# Altium footprint library NewLibrary.PcbLib: 125 footprints (part 8 of 8)
Each footprint in its own frame and in the unit in brackets; x right, y up, seen from the top. Pads: shape width x height; smd on the part's side, far side on the other; paste and mask are expansions set on the pad; w line width, h text height; cw(c..) or ccw(c..) is an arc to the next point about the centre after c.
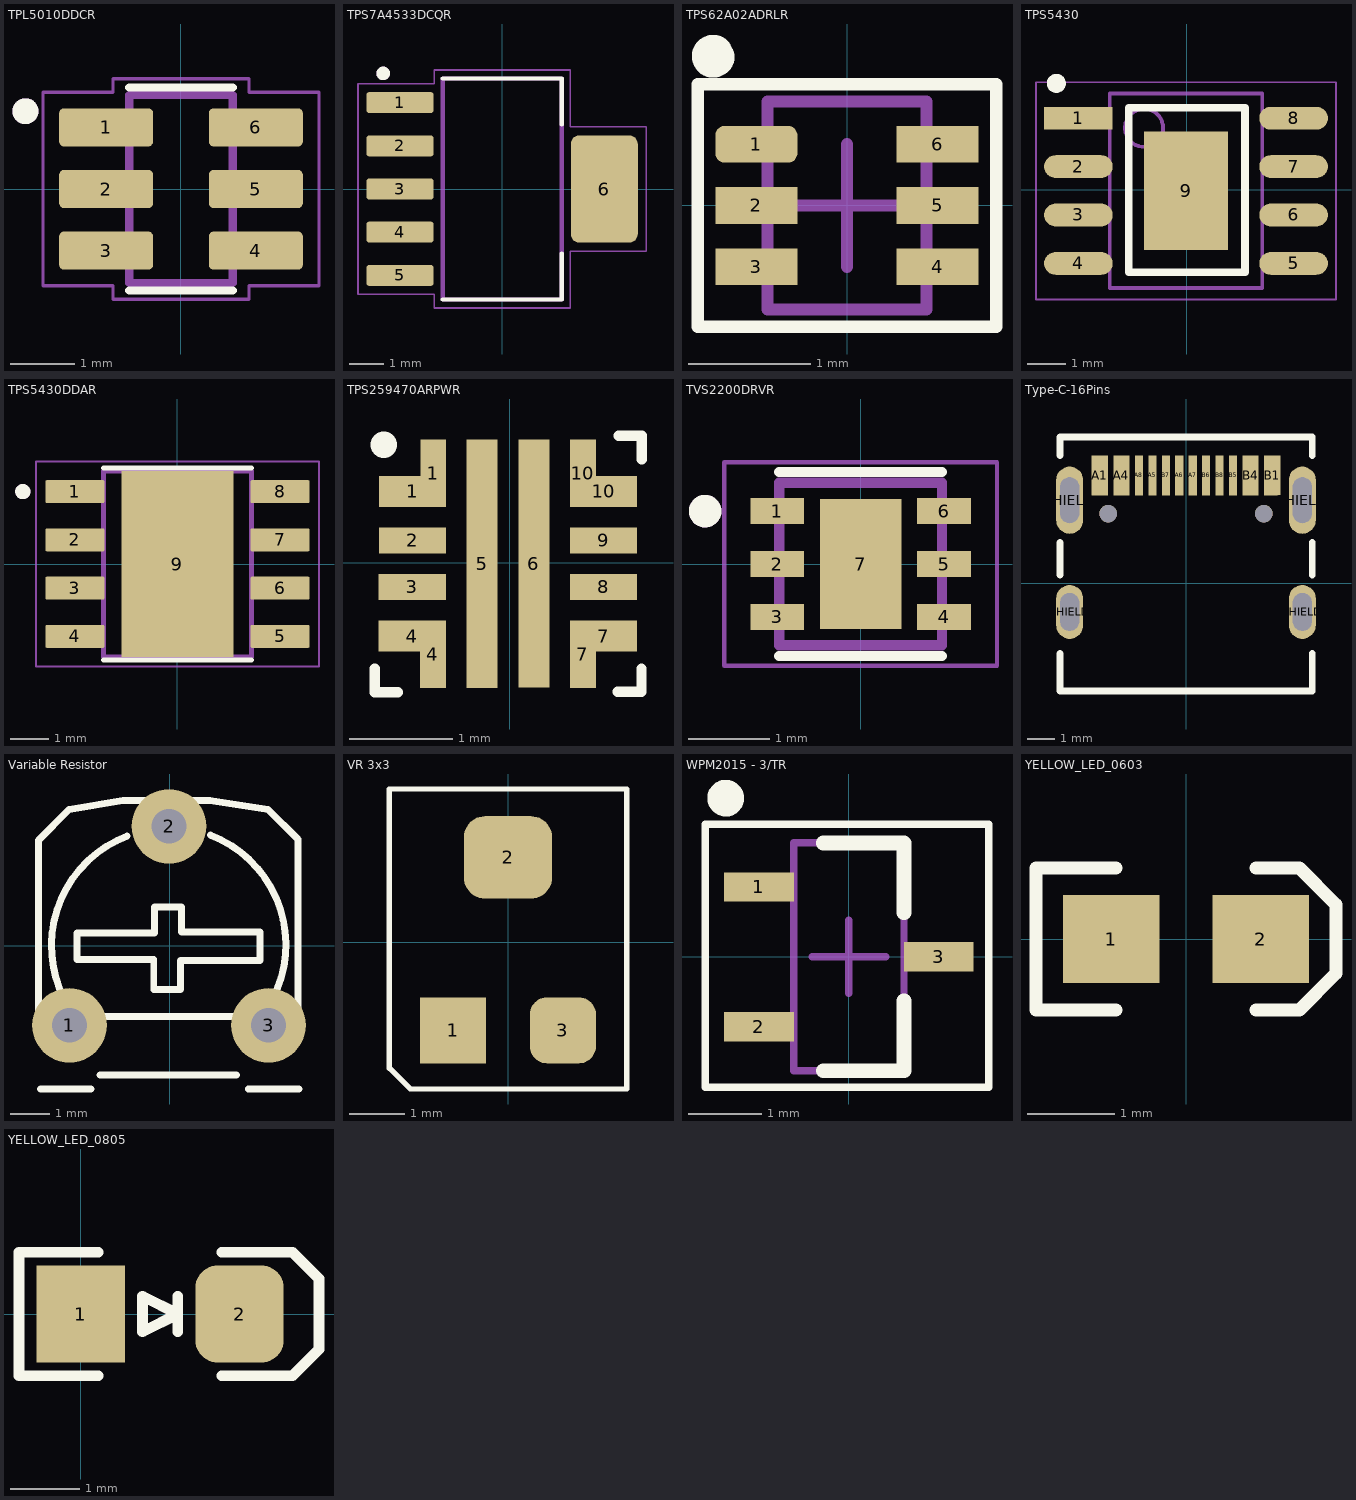
[diagram p7: the footprints below, top view; thin cyan lines are the x and y axes]

## TPL5010DDCR [mm] "IC OSC PROG TIMER TSOT23-6"
pads (6):
  rrect25% 1.45x0.59 smd: 1(-1.155,0.95) 2(-1.155,0) 3(-1.155,-0.95) 4(1.155,-0.95) 5(1.155,0) 6(1.155,0.95)
Top Overlay:
  circle w0.2: c-2.4,1.2 r0.1
  lines w0.127: -0.8,-1.565 0.8,-1.565 ; -0.8,1.565 0.8,1.565
Mechanical 13:
  circle w0.2: c-2.4,1.2 r0.1
  lines w0.127: -0.8,-1.45 0.8,-1.45 0.8,1.45 -0.8,1.45 -0.8,-1.45
Mechanical 15:
  lines w0.05: -2.13,-1.495 -1.05,-1.495 -1.05,-1.7 1.05,-1.7 1.05,-1.495 2.13,-1.495 2.13,1.495 1.05,1.495 1.05,1.7 -1.05,1.7 -1.05,1.495 -2.13,1.495 -2.13,-1.495
3D body "step_temp.STEP": height 1.1, standoff 0, extent -1.4,-1.45 1.4,1.45

## TPS7A4533DCQR [mm] "IC REG LIN 3.3V 1.5A SOT-223-6"
pads (6):
  rrect25% 1.97x0.62 smd: 1(-3.005,2.54) 2(-3.005,1.27) 3(-3.005,0) 4(-3.005,-1.27) 5(-3.005,-2.54)
  rrect25% 1.97x3.16 smd: 6(3.005,0)
Top Overlay:
  circle w0.2: c-3.5,3.4 r0.1
  lines w0.127: -1.75,-3.25 1.75,-3.25 1.75,-1.9 ; -1.75,3.25 1.75,3.25 1.75,1.9
Mechanical 13:
  circle w0.2: c-3.5,3.4 r0.1
  lines w0.127: -1.75,-3.25 -1.75,3.25 1.75,3.25 1.75,-3.25 -1.75,-3.25
Mechanical 15:
  lines w0.05: -4.24,-3.1 -2,-3.1 -2,-3.5 2,-3.5 2,-1.83 4.24,-1.83 4.24,1.83 2,1.83 2,3.5 -2,3.5 -2,3.1 -4.24,3.1 -4.24,-3.1
3D body "TPS7A4533DCQR.STEP": height 1.8, standoff 0, extent -3.53,-3.25 3.53,3.25

## TPS62A02ADRLR [mm] "SOTFL, 6-Leads, Body 1.60x1.60mm, Pitch 0.50mm, IPC Medium Density"
height 0.6
pads (6):
  rrect50% 0.67x0.3 smd: 1(-0.74,0.5)
  rect 0.67x0.3 smd: 2(-0.74,0) 3(-0.74,-0.5) 4(0.74,-0.5) 5(0.74,0) 6(0.74,0.5)
Top Overlay:
  lines w0.1: -1.219,-0.991 1.219,-0.991 1.219,0.991 -1.219,0.991 -1.219,-0.991
  lines w0.25: -1.064,1.261 ccw(c-1.092,1.219) -1.042,1.219
Mechanical 13:
  lines w0.1: -0.65,-0.85 0.65,-0.85 0.65,0.85 -0.65,0.85 -0.65,-0.85
Mechanical 15:
  lines w0.05: -1.225,-1 1.225,-1 1.225,1 -1.225,1 -1.225,-1
  lines w0.1: -0.5,0 0.5,0 ; 0,-0.5 0,0.5
3D body "TPS62A02ADRLR.step": height 0.6, standoff 0, extent -0.8,-0.848 0.8,0.848

## TPS5430 [mm]
pads (9):
  rect 1.8x0.6 smd: 1(-2.85,1.88)
  oval 1.8x0.6 smd: 2(-2.85,0.61) 3(-2.85,-0.66) 4(-2.85,-1.93) 5(2.8,-1.93) 6(2.8,-0.66) 7(2.8,0.61) 8(2.8,1.88)
  rect 2.2x3.1 smd: 9(-0.025,-0.025)
Top Overlay:
  circle w0.25: c-3.429,2.794 r0.125
  lines w0.2: -1.524,-2.159 -1.524,2.159 1.524,2.159 1.524,-2.159 1.397,-2.159 -1.524,-2.159
Mechanical 13:
  circle w0.1: c-1.125,1.625 r0.5
  lines w0.1: -2.025,-2.575 -2.025,2.525 1.975,2.525 1.975,-2.575 -2.025,-2.575
Mechanical 15:
  lines w0.05: -3.962,-2.875 -3.962,2.825 3.912,2.825 3.912,-2.875 -3.962,-2.875
  lines w0.1: -0.525,-0.025 0.475,-0.025 ; -0.025,-0.525 -0.025,0.475
3D body "CircuitWorks-SO-8 (PIC12FXXX).step": height 1.6, standoff 0, extent -3.02,-2.475 2.97,2.425

## TPS5430DDAR [mm] "Buck Switching Regulator IC Positive Adjustable 1.221V 1 Output 3A 8-PowerSOIC (0.154\", 3.90mm Width)"
pads (9):
  rrect10% 1.55x0.6 smd mask+0: 1(-2.7,1.905) 2(-2.7,0.635) 3(-2.7,-0.635) 4(-2.7,-1.905) 5(2.7,-1.905) 6(2.7,-0.635) 7(2.7,0.635) 8(2.7,1.905)
  rect 2.95x4.9 smd paste-3 mask+0: 9(0,0)
Top Overlay:
  circle w0.2: c-4.07,1.905 r0.1
  lines w0.127: -1.95,-2.525 1.95,-2.525 ; -1.95,2.525 1.95,2.525
Top Paste:
  region: 1.3,-1.55 -1.3,-1.55 -1.3,1.55 1.3,1.55
Top Solder:
  drawing of 9 lines, arcs and shapes, not listed
Mechanical 13:
  circle w0.2: c-4.07,1.905 r0.1
  lines w0.127: -1.95,-2.45 -1.95,2.45 1.95,2.45 1.95,-2.45 -1.95,-2.45
Mechanical 15:
  lines w0.05: -3.725,-2.7 -3.725,2.7 3.725,2.7 3.725,-2.7 -3.725,-2.7
3D body "step_temp.STEP": height 1.7, standoff 0, extent -3,-2.45 3,2.45

## TPS259470ARPWR [mm] "IC ELECTRONIC FUSE 10VQFN"
pads (14):
  rect 0.65x0.3 smd: 1(-0.938,0.692) 4(-0.941,-0.708) 7(0.909,-0.708) 10(0.909,0.692)
  rect 0.25x0.65 smd: 1(-0.738,0.867) 4(-0.741,-0.883) 7(0.709,-0.883) 10(0.709,0.867)
  rect 0.65x0.25 smd: 2(-0.938,0.217) 3(-0.941,-0.233) 8(0.909,-0.233) 9(0.909,0.217)
  rect 0.3x2.4 smd: 5(-0.265,-0.008) 6(0.235,-0.007)
Top Overlay:
  lines w0.1: -1.304,-1.022 -1.304,-1.25 -1.079,-1.25 ; 1.047,-1.247 1.275,-1.247 1.275,-1.021 ; 1.052,1.229 1.278,1.229 1.278,1
  lines w0.254: -1.217,1.143 -1.213,1.143
3D body "TPS259470ARPWR.STEP": height 1, standoff 0, extent -1.012,-1.006 0.988,0.994

## TVS2200DRVR [mm] "UNIDIR PRECISION SURGE DIODE"
pads (7):
  rect 0.66x0.32 smd: 1(-1.025,0.65) 2(-1.025,0) 3(-1.025,-0.65) 4(1.025,-0.65) 5(1.025,0) 6(1.025,0.65)
  rect 1x1.6 smd paste-2: 7(0,0)
Top Overlay:
  circle w0.2: c-1.91,0.65 r0.1
  lines w0.127: -1,-1.13 1,-1.13 ; -1,1.13 1,1.13
Top Paste:
  region: 0.316,-0.506 -0.316,-0.506 -0.316,0.506 0.316,0.506
Mechanical 13:
  circle w0.2: c-1.91,0.65 r0.1
  lines w0.127: -1,-1 -1,1 1,1 1,-1 -1,-1
Mechanical 15:
  lines w0.05: -1.675,-1.25 -1.675,1.25 1.675,1.25 1.675,-1.25 -1.675,-1.25
3D body "TVS2200DRVR.STEP": height 0.8, standoff 0, extent -1,-1 1,1

## Type-C-16Pins [mm]
pads (18):
  rect 0.6x1.5 smd: A1(-3.202,4) A4(-2.402,4) B1(3.198,4) B4(2.398,4)
  rect 0.3x1.5 smd: A5(-1.252,4) A6(-0.252,4) A7(0.248,4) A8(-1.752,4) B5(1.748,4) B6(0.748,4) B7(-0.752,4) B8(1.248,4)
  oval 1x2 hole 0.7 slot 1.4 at 90 deg: SHIELD(-4.322,-1.067) SHIELD(4.318,-1.067)
  oval 1x2.5 hole 0.7 slot 1.7 at 90 deg: SHIELD(-4.322,3.083) SHIELD(4.318,3.083)
  round 0.65 hole 0.65 mask+0.102: SHIELD(-2.892,2.583) SHIELD(2.888,2.583)
Top Overlay:
  lines w0.254: -4.678,-2.614 -4.678,-4.003 4.688,-4.003 4.688,-2.614 ; -4.678,0.3 -4.678,1.514 ; -4.678,4.746 -4.678,5.43 4.688,5.43 4.688,4.746 ; 4.688,0.3 4.688,1.514
3D body "Type-C 16P.STEP": height 3.21, standoff -1, extent -4.47,-3.65 4.47,4.25

## Variable Resistor [mil] "RM065"
pads (3):
  round 75 hole 35: 1(-100.66,-80) 2(-0.66,120) 3(99.34,-80)
Top Overlay:
  lines w7: -132,-69 -132,106 -101,137 -47,146 40.5,146 99,137 129,107 129,-68 ; -130,-144 -79,-144 ; -105.35,-54.66 cw(c-1,0) -42.9,110.1 ; -93,13 -93,-14 -16,-14 -16,-44 11,-44 11,-15 91,-15 91,14 12,14 12,39 -15,39 -15,13 -92,13 ; -70,-130 67,-130 ; -69,-71 66,-71 ; 40.9,111.1 cw(c-1,1) 103.35,-53.66 ; 79,-144 130,-144
3D body "Basprov1213.step": height 298.65, standoff -136.39, extent -124.14,-144.36 130.98,139.1

## VR 3x3 [mm]
pads (3):
  rect 1.2x1.2 smd mask+0.051: 1(-1,-1.6)
  rrect50% 1.6x1.5 smd mask+0.051: 2(0,1.55)
  rrect50% 1.2x1.2 smd mask+0.051: 3(1,-1.6)
Top Overlay:
  lines w0.1: -2.159,-2.286 -2.159,2.794 2.159,2.794 2.159,-2.667 -1.778,-2.667 -2.159,-2.286
3D body "User Library-EVM2N.STEP": height 0.81, standoff 0, extent -1.1,-1.56 1.1,1.25

## WPM2015 - 3/TR [mm] "Single P-Channel, -20V, -2.4A, Power MOSFET"
height 1.3
pads (3):
  rect 0.95x0.4 smd: 1(-1.225,0.95) 2(-1.225,-0.95) 3(1.225,0)
Top Overlay:
  circle w0.25: c-1.676,2.159 r0.125
  lines w0.1: -1.956,-1.778 1.905,-1.778 1.905,1.803 -1.956,1.803 -1.956,-1.778
  lines w0.2: -0.35,-1.55 0.75,-1.55 0.75,-0.6 ; -0.35,1.55 0.75,1.55 0.75,0.6
Mechanical 13:
  lines w0.1: -0.75,-1.55 0.75,-1.55 0.75,1.55 -0.75,1.55 -0.75,-1.55
Mechanical 15:
  lines w0.05: -1.95,-1.8 1.905,-1.8 1.905,1.8 -1.95,1.8 -1.95,-1.8
  lines w0.1: -0.5,0 0.5,0 ; 0,-0.5 0,0.5
3D body "SOT23127P600-8N.step": height 1.3, standoff 0, extent -1.35,-1.55 1.35,1.55

## YELLOW_LED_0603 [mm] "SMD"
pads (2):
  rect 1.1x1 smd mask+0.1: 1(-0.851,0) 2(0.849,0)
Top Overlay:
  lines w0.15: -0.801,-0.81 -1.711,-0.81 -1.711,0.81 -0.801,0.81 ; 0.799,-0.81 1.29,-0.81 1.709,-0.391 1.709,0.391 1.29,0.81 0.799,0.81
3D body "SMD_0603LED_YEL.STEP": height 0.98, standoff 0.1, extent -0.808,-0.5 0.808,0.5

## YELLOW_LED_0805 [mil] "SMD"
pads (2):
  rect 50x55 smd: 1(0,0)
  rrect50% 50x55 smd: 2(90,0)
Top Overlay:
  lines w6: 10,-35 -35,-35 -35,35 10,35 ; 55,-10 55,10 ; 80,-35 120,-35 135,-20 135,0 135,20 120,35 80,35 ; 35,-10 35,10 55,0 35,-10
3D body "User Library-led_0805-yellow.step": height 43.31, standoff 0, extent 5.24,-24.6 84.77,24.61